# EAGLE library part KINGBRIGHT_SC23 (library numeric-display-kingbright-sc23)
SA23-12SRWA single digit numeric display
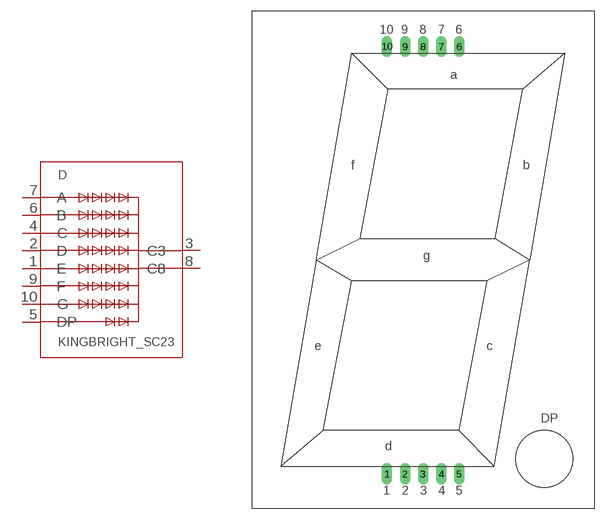
[diagram p0: symbol with the pads of KINGBRIGHT_SC23; footprint KINGBRIGHT_SC23]

Designator prefix D

## KINGBRIGHT_SC23  [KINGBRIGHT_SC23]
1  E  in
2  D  in
3  C3  in
4  C  in
5  DP  in
6  B  in
7  A  in
8  C8  in
9  F  in
10  G  in

## Footprint KINGBRIGHT_SC23 (pad centres in mm)
drill 1 long: 1 -5.08,-30.08; 2 -2.54,-30.08; 3 0,-30.08; 4 2.54,-30.08; 5 5.08,-30.08; 6 5.08,29.98; 7 2.54,29.98; 8 0,29.98; 9 -2.54,29.98; 10 -5.08,29.98